# EAGLE library part HCF4066BEY (library ST Microelectronics)
QUAD BILATERAL SWITCH FOR TRANSMISSION
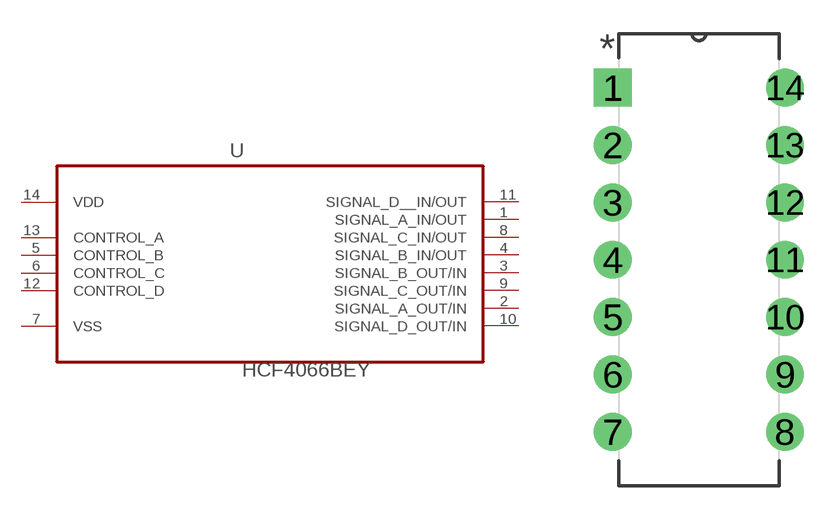
[diagram p16: symbol with the pads of DIP254P762X510-14; footprint DIP254P762X510-14]

Designator prefix U

## HCF4066BEY (MPN: HCF4066BEY; OC_FARNELL: 1463136; OC_NEWARK: 89K0579; PACKAGE: PDIP-14; SUPPLIER: STMICROELECTRONICS)  [DIP254P762X510-14]
1  SIGNAL_A_IN/OUT
2  SIGNAL_A_OUT/IN
3  SIGNAL_B_OUT/IN
4  SIGNAL_B_IN/OUT
5  CONTROL_B  in
6  CONTROL_C  in
7  VSS  pwr
8  SIGNAL_C_IN/OUT
9  SIGNAL_C_OUT/IN
10  SIGNAL_D_OUT/IN
11  SIGNAL_D__IN/OUT
12  CONTROL_D  in
13  CONTROL_A  in
14  VDD  pwr

## Footprint DIP254P762X510-14 (pad centres in mm)
drill 1.118 square: 1 -7.62,15.24
drill 1.118: 2 -7.62,12.7; 3 -7.62,10.16; 4 -7.62,7.62; 5 -7.62,5.08; 6 -7.62,2.54; 7 -7.62,0; 8 0,0; 9 0,2.54; 10 0,5.08; 11 0,7.62; 12 0,10.16; 13 0,12.7; 14 0,15.24